# EAGLE library part FX465 (library cml-micro)
Extended Code CTCSS Encoder/Decoder
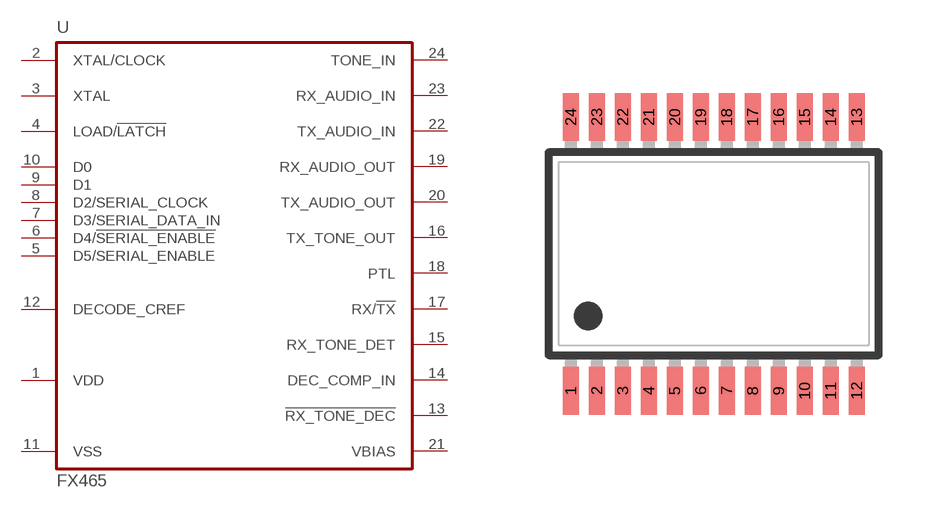
[diagram p11: symbol with the pads of SSOP24; footprint SSOP24]

Designator prefix U

## FX465D5  [SSOP24]
1  VDD  out
2  XTAL/CLOCK  in
3  XTAL  out
4  LOAD/!LATCH!  out
5  D5/SERIAL_ENABLE  out
6  D4/!SERIAL_ENABLE  out
7  D3/SERIAL_DATA_IN  out
8  D2/SERIAL_CLOCK  out
9  D1  out
10  D0  out
11  VSS  out
12  DECODE_CREF  out
13  !RX_TONE_DEC!  out
14  DEC_COMP_IN  out
15  RX_TONE_DET  out
16  TX_TONE_OUT  out
17  RX/!TX!  out
18  PTL  out
19  RX_AUDIO_OUT  out
20  TX_AUDIO_OUT  out
21  VBIAS  out
22  TX_AUDIO_IN  out
23  RX_AUDIO_IN  out
24  TONE_IN  out

## Footprint SSOP24 (pad centres in mm)
Small Shrink Outline Package SOT340-1 / JEDEC MO-150AG
smd 0.4 x 1.2: 1 -3.575,-3.42; 2 -2.925,-3.42; 3 -2.275,-3.42; 4 -1.625,-3.42; 5 -0.975,-3.42; 6 -0.325,-3.42; 7 0.325,-3.42; 8 0.975,-3.42; 9 1.625,-3.42; 10 2.275,-3.42; 11 2.925,-3.42; 12 3.575,-3.42; 13 3.575,3.42; 14 2.925,3.42; 15 2.275,3.42; 16 1.625,3.42; 17 0.975,3.42; 18 0.325,3.42; 19 -0.325,3.42; 20 -0.975,3.42; 21 -1.625,3.42; 22 -2.275,3.42; 23 -2.925,3.42; 24 -3.575,3.42